# EAGLE library part MC34063ECD-TR (library MC34063ECD-TR)
STMicroelectronics, MC34063ECD-TR Source: Datasheet <https://www.st.com/resource/en/datasheet/mc34063ec.pdf>
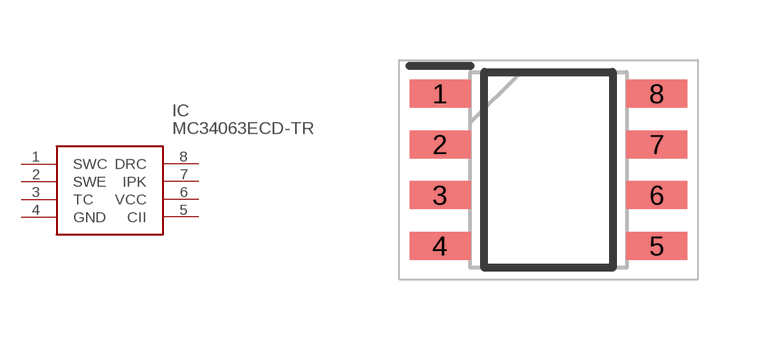
[diagram p0: symbol with the pads of SOIC127P600X175-8N; footprint SOIC127P600X175-8N]

Designator prefix IC

## MC34063ECD-TR (Description: STMicroelectronics, MC34063ECD-TR; Height: 1.75mm; Manufacturer_Name: STMicroelectronics; Manufacturer_Part_Number: MC34063ECD-TR; Mouser_Part_Number: 511-MC34063ECD-TR; Mouser_Price-Stock: https://www.mouser.co.uk/ProductDetail/STMicroelectronics/MC34063ECD-TR?qs=yc0hdvjf4X927o4awNc7hw%3D%3D)  [SOIC127P600X175-8N]
1  SWC
2  SWE
3  TC
4  GND
5  CII
6  VCC
7  IPK
8  DRC

## Footprint SOIC127P600X175-8N (pad centres in mm)
MC34063ECD
smd 1.525 x 0.7: 1 -2.712,1.905; 2 -2.712,0.635; 3 -2.712,-0.635; 4 -2.712,-1.905; 5 2.712,-1.905; 6 2.712,-0.635; 7 2.712,0.635; 8 2.712,1.905